# EAGLE library part BUCK_LED_DRIVER (library tian)
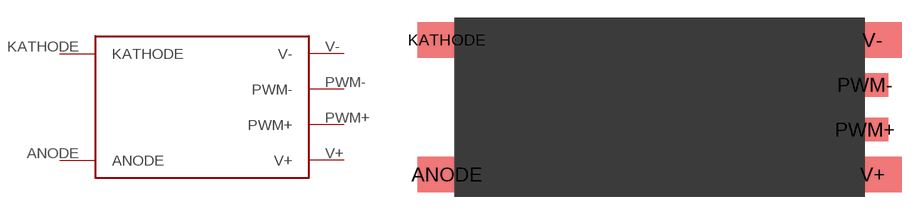
[diagram p0: symbol with the pads of BUCK_LED_DRIVER; footprint BUCK_LED_DRIVER]

Designator prefix -

## BUCK_LED_DRIVER  [BUCK_LED_DRIVER]
ANODE  ANODE
KATHODE  KATHODE
PWM+  PWM+
PWM-  PWM-
V+  V+
V-  V-

## Footprint BUCK_LED_DRIVER (pad centres in mm)
LED BUCK DRIVER http://www.led-tech.de/de/LED-Controlling/Konstantstromquellen/BUCK-Konstantstromquelle--1000mA,-30V--LT-1553_118_119.html
smd 5 x 3: ANODE -0.635,1.905; KATHODE -0.635,13.335; V+ 35.56,1.905; V- 35.56,13.335
smd 4 x 2: PWM+ 34.925,5.715; PWM- 34.925,9.525